# Altium schematic symbol library Sch_LCD.SchLib: 1 symbol
Pins are listed as number, name and electrical type; pins without a type are passive.

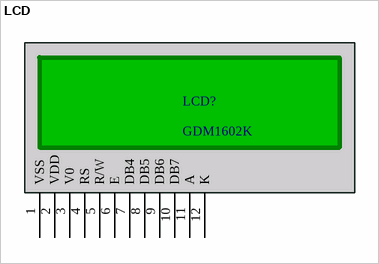
[diagram p0: symbol LCD]

## LCD
designator LCD?, comment GDM1602K
LCD GDM1602K Rev2.2
footprint LCD (LCD Display de 16x1 Caracter)
pins: 1 VSS, 2 VDD, 3 V0, 4 RS, 5 R/W, 6 E, 7 DB4, 8 DB5, 9 DB6, 10 DB7, 11 A, 12 K